# EAGLE library part RESISTOR_NETWORK_4_* (library HyTechDevices - Capacitors)
Resistor Network, 4 Elements YC/TC Series <https://www.mouser.com/datasheet/2/447/yageo_yago_s_a0009164376_1-1991537.pdf> CAT/CAY 16 Series <https://www.mouser.com/datasheet/2/54/CATCAY-777361.pdf>
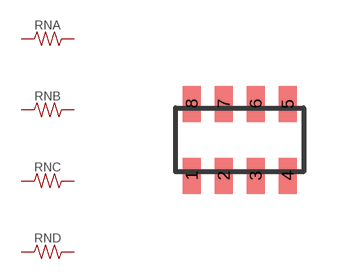
[diagram p9: symbol with the pads of 1206-RES; footprint 1206-RES]

Designator prefix RN; gates A=RESISTOR B=RESISTOR C=RESISTOR D=RESISTOR

## RESISTOR_NETWORK_4_10 (DKPN: CAT16-100J4LFCT-ND; MANUFACTURER: Bourns Inc.; MOPN: 652-CAT16-100J4LF; MPN: CAT16-100J4LF; POWER: 1/16W; RESISTANCE: 10; TOLERANCE: 5%; VOLTAGE: 50V), RESISTOR_NETWORK_4_100 (DKPN: CAT16-1000F4LFCT-ND; MANUFACTURER: Bourns Inc.; MOPN: 652-CAT16-1000F4LF; MPN: CAT16-1000F4LF; POWER: 1/16W; RESISTANCE: 100; TOLERANCE: 1%; VOLTAGE: 50V), RESISTOR_NETWORK_4_10K (DKPN: YAG3410CT-ND; MANUFACTURER: Yageo; MOPN: 603-TC164-FR-0710KL; MPN: TC164-FR-0710KL; POWER: 1/16W; RESISTANCE: 10K; TOLERANCE: 1%; VOLTAGE: 50V), RESISTOR_NETWORK_4_160 (DKPN: YC164J-160CT-ND; MANUFACTURER: Yageo; MOPN: 603-YC164-JR-07160RL; MPN: YC164-JR-07160RL; POWER: 1/16W; RESISTANCE: 160; TOLERANCE: 5%; VOLTAGE: 50V), RESISTOR_NETWORK_4_1K (DKPN: 13-YC164-FR-071KLCT-ND; MANUFACTURER: Yageo; MOPN: 603-YC164-FR-071KL; MPN: YC164-FR-071KL; POWER: 1/16W; RESISTANCE: 1k; TOLERANCE: 1%; VOLTAGE: 50V), RESISTOR_NETWORK_4_27K (DKPN: CAT16-2702F4LFCT-ND; MANUFACTURER: Bourns Inc.; MOPN: 652-CAT16-2702F4LF; MPN: CAT16-2702F4LF; POWER: 1/16W; RESISTANCE: 27K; TOLERANCE: 1%; VOLTAGE: 50V)  [1206-RES]
1  A:1  pas
2  B:1  pas
3  C:1  pas
4  D:1  pas
5  D:2  pas
6  C:2  pas
7  B:2  pas
8  A:2  pas

## Footprint 1206-RES (pad centres in mm)
YC/TC164 Landing Pattern <http://new-web.yageo.com/exep/pages/download/literatures/PYu-R_Mount_10.pdf> Size <https://www.yageo.com/upload/media/product/productsearch/datasheet/rchip/PYu-YC_TC_group_51_RoHS_L_9.pdf> Note: Also works for CAT/CAY16 Series. Datasheet <https://www.mouser.com/datasheet/2/54/CATCAY-777361.pdf>
smd 0.45 x 0.9: 1 -1.2,-0.9; 2 -0.4,-0.9; 3 0.4,-0.9; 4 1.2,-0.9; 5 1.2,0.9; 6 0.4,0.9; 7 -0.4,0.9; 8 -1.2,0.9